# Altium schematic symbol library IC.SchLib: 26 symbols
Pins are listed as number, name and electrical type; pins without a type are passive.

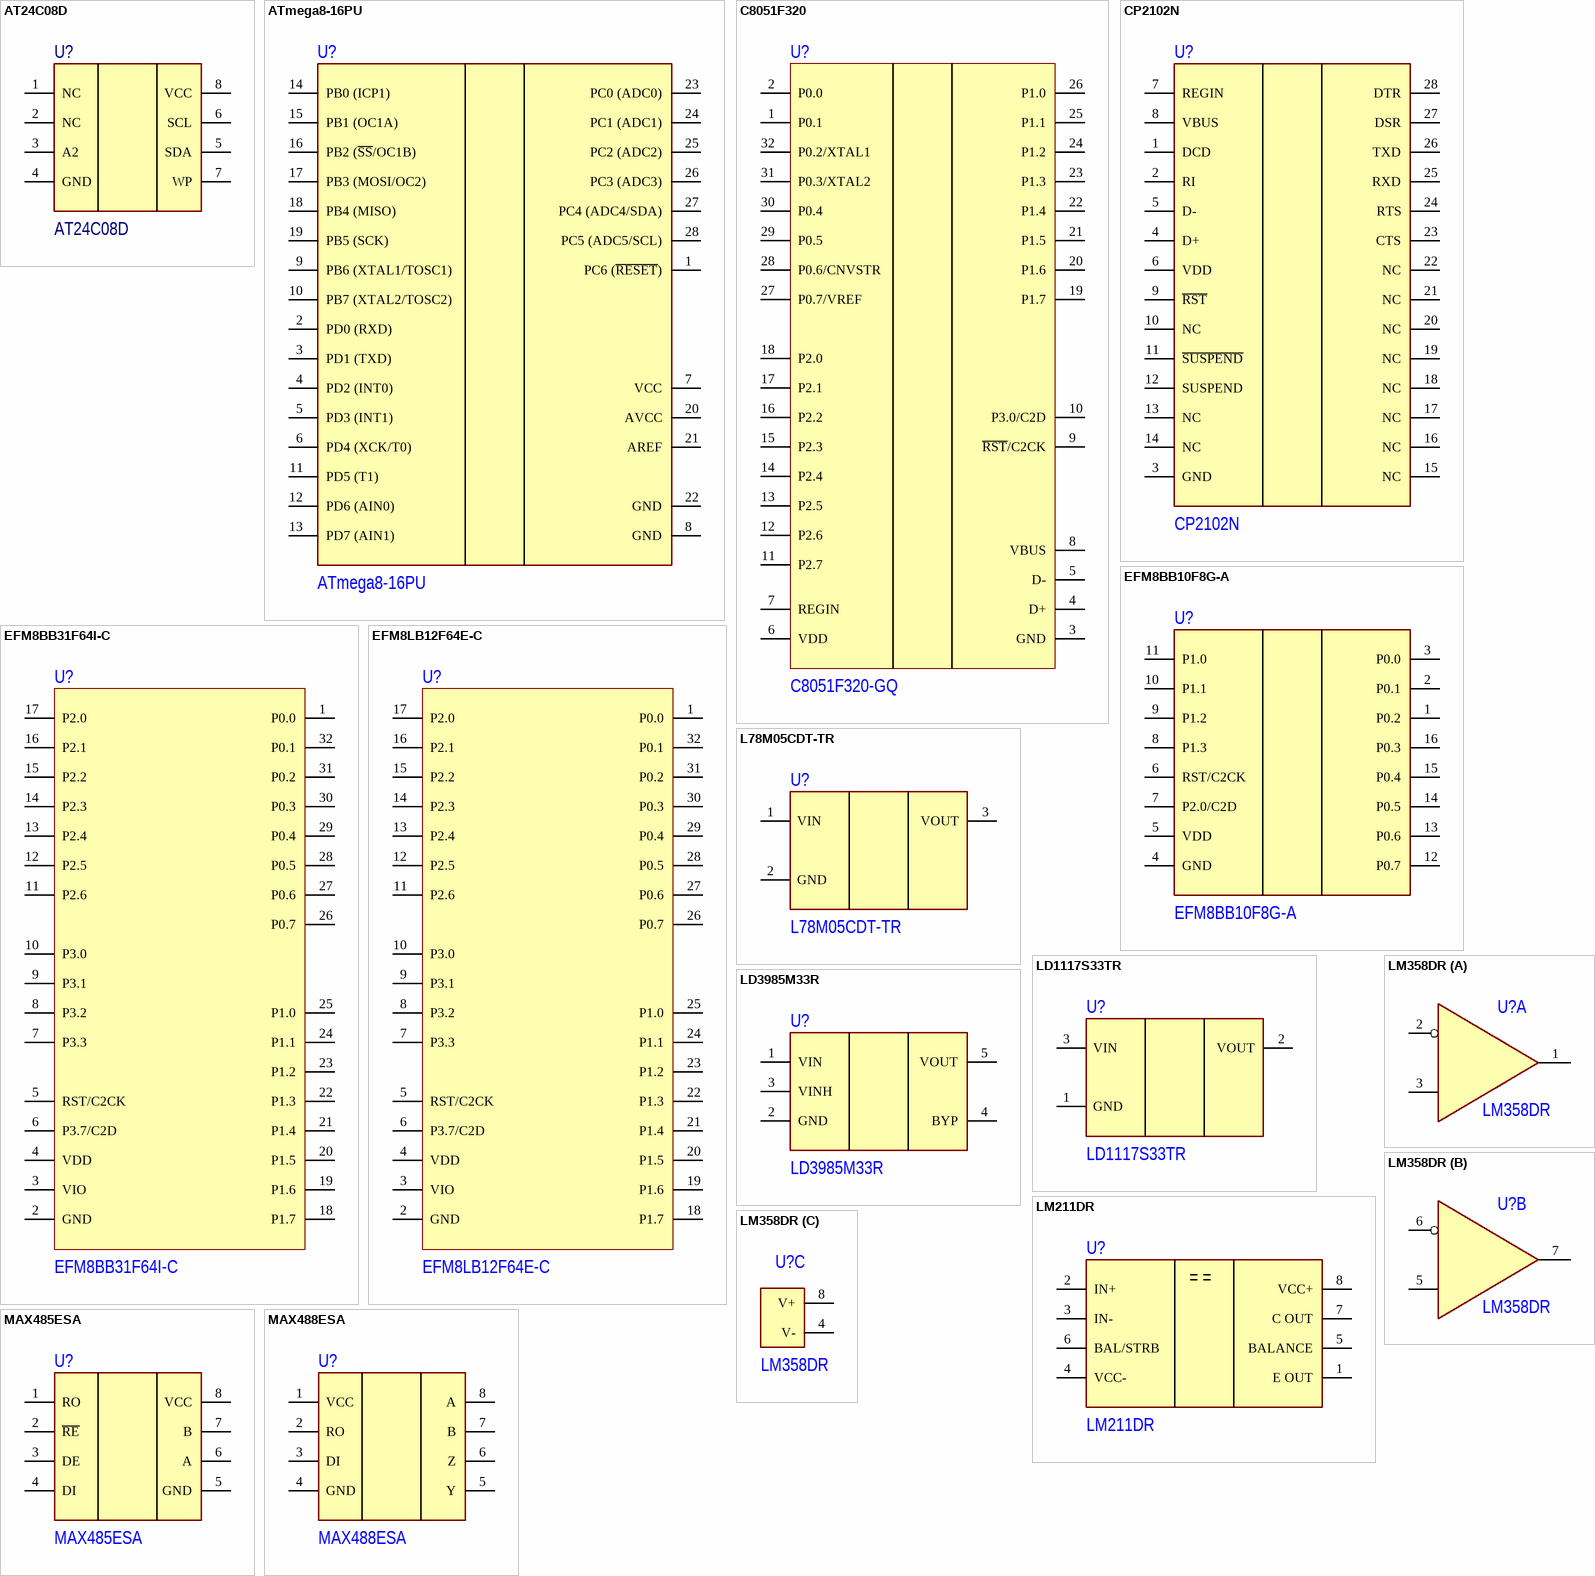
[diagram p0: symbols AT24C08D to MAX488ESA]

## AT24C08D
designator U?
IC EEPROM 8K I2C 1MHZ 8SOIC; Manufacturer: Microchip Technology; Note: SOIC-8; Part Number: AT24C08D
footprint 8-SOIC
pins: 1 NC, 2 NC, 3 A2, 4 GND (power), 5 SDA, 6 SCL, 7 WP, 8 VCC (power)

## ATmega8-16PU
designator U?
IC MCU 8BIT, 4.5-5.5V, 16MHz, 8KB Flash, 512 Bytes EEPROM, 1KB SRAM, 28-pin PDIP, Industrial Grade (-40°C to 85°C); Manufacturer: Atmel; Note: DIP-28; Part Number: ATmega8-16PU
footprint 28-DIP (28-Pin Plastic Dual In-Line Package (PDIP))
pins: 1 PC6 (~{RESET}), 2 PD0 (RXD), 3 PD1 (TXD), 4 PD2 (INT0), 5 PD3 (INT1), 6 PD4 (XCK/T0), 7 VCC (power), 8 GND (power), 9 PB6 (XTAL1/TOSC1), 10 PB7 (XTAL2/TOSC2), 11 PD5 (T1), 12 PD6 (AIN0), 13 PD7 (AIN1), 14 PB0 (ICP1), 15 PB1 (OC1A), 16 PB2 (~{SS}/OC1B), 17 PB3 (MOSI/OC2), 18 PB4 (MISO), 19 PB5 (SCK), 20 AVCC (power), 21 AREF, 22 GND (power), 23 PC0 (ADC0), 24 PC1 (ADC1), 25 PC2 (ADC2), 26 PC3 (ADC3), 27 PC4 (ADC4/SDA), 28 PC5 (ADC5/SCL)

## C8051F320
designator U?, comment C8051F320-GQ
IC MCU 8BIT 16KB FLASH 32LQFP; Manufacturer: Silicon Labs; Note: LQFP-32; Part Number: C8051F320-GQ
footprint 32-LQFP
pins: 1 P0.1 "Port 0.1.", 2 P0.0 "Port 0.0. See Section 14 for a complete description of Port 0.", 3 GND "Ground.", 4 D+ "USB D+.", 5 D- "USB D-", 6 VDD "2.7-3.6 V Power Supply Voltage Input. 3.3 V Voltage Regulator Output. See Section 8.", 7 REGIN "5 V Regulator Input. This pin is the input to the on-chip  voltage regulator.", 8 VBUS "VBUS Sense Input. This pin should be connected to the VBUS signal of a USB network. A 5 V signal on this pin indicates a USB network connection.", 9 ~{RST}/C2CK, 10 P3.0/C2D, 11 P2.7 "Port 2.7.", 12 P2.6 "Port 2.6.", 13 P2.5 "Port 2.5.", 14 P2.4 "Port 2.4.", 15 P2.3 "Port 2.3.", 16 P2.2 "Port 2.2.", 17 P2.1 "Port 2.1.", 18 P2.0 "Port 2.0. See Section 20 for a complete description of Port 2.", 19 P1.7 "Port 1.7.", 20 P1.6 "Port 1.6.", 21 P1.5 "Port 1.5.", 22 P1.4 "Port 1.4.", 23 P1.3 "Port 1.3.", 24 P1.2 "Port 1.2.", 25 P1.1 "Port 1.1.", 26 P1.0 "Port 1.0. See Section 20 for a complete description of Port 1.", 27 P0.7/VREF, 28 P0.6/CNVSTR, 29 P0.5 "Port 0.5.", 30 P0.4 "Port 0.4.", 31 P0.3/XTAL2, 32 P0.2/XTAL1

## CP2102N
designator U?
IC USB TO UART BRIDGE QFN28; Part Number: CP2102N-A02-GQFN28R; Manufacturer: Silicon Labs; Note: QFN-28
footprint 28-QFN (PQFN, 28-Leads, Body 5,00x5,00mm, Pitch 0,50mm, Thermal Pad 3,15x3,15mm, IPC Medium Density)
pins: 1 DCD, 2 RI, 3 GND, 4 D+, 5 D-, 6 VDD, 7 REGIN, 8 VBUS, 9 ~{RST}, 10 NC, 11 ~{SUSPEND}, 12 SUSPEND, 13 NC, 14 NC, 15 NC, 16 NC, 17 NC, 18 NC, 19 NC, 20 NC, 21 NC, 22 NC, 23 CTS, 24 RTS, 25 RXD, 26 TXD, 27 DSR, 28 DTR

## EFM8BB10F8G-A
designator U?
IC MCU 8BIT 8KB FLASH SOIC-16; Manufacturer: Silicon Labs; Part Number: EFM8BB10F8G-A; Note: SOIC-16
footprint 16-SOIC
pins: 1 P0.2, 2 P0.1, 3 P0.0, 4 GND, 5 VDD, 6 RST/C2CK, 7 P2.0/C2D, 8 P1.3, 9 P1.2, 10 P1.1, 11 P1.0, 12 P0.7, 13 P0.6, 14 P0.5, 15 P0.4, 16 P0.3

## EFM8BB31F64I-C
designator U?
IC MCU 8BIT QFP-32; Part Number: EFM8BB31F64I-C-QFP32; Manufacturer: Silicon Labs; Note: QFP-32
footprint 32-LQFP
pins: 1 P0.0, 2 GND, 3 VIO, 4 VDD, 5 RST/C2CK, 6 P3.7/C2D, 7 P3.3, 8 P3.2, 9 P3.1, 10 P3.0, 11 P2.6, 12 P2.5, 13 P2.4, 14 P2.3, 15 P2.2, 16 P2.1, 17 P2.0, 18 P1.7, 19 P1.6, 20 P1.5, 21 P1.4, 22 P1.3, 23 P1.2, 24 P1.1, 25 P1.0, 26 P0.7, 27 P0.6, 28 P0.5, 29 P0.4, 30 P0.3, 31 P0.2, 32 P0.1

## EFM8LB12F64E-C
designator U?
IC MCU 8BIT QFP-32; Part Number: EFM8LB12F64E-C-QFP32R; Manufacturer: Silicon Labs; Note: QFP-32
footprint 32-LQFP
pins: 1 P0.0, 2 GND, 3 VIO, 4 VDD, 5 RST/C2CK, 6 P3.7/C2D, 7 P3.3, 8 P3.2, 9 P3.1, 10 P3.0, 11 P2.6, 12 P2.5, 13 P2.4, 14 P2.3, 15 P2.2, 16 P2.1, 17 P2.0, 18 P1.7, 19 P1.6, 20 P1.5, 21 P1.4, 22 P1.3, 23 P1.2, 24 P1.1, 25 P1.0, 26 P0.7, 27 P0.6, 28 P0.5, 29 P0.4, 30 P0.3, 31 P0.2, 32 P0.1

## L78M05CDT-TR
designator U?
IC REG LINEAR 5V 500MA DPAK; Manufacturer: STMicroelectronics; Part Number: L78M05CDT-TR; Note: DPAK
footprint DPAK
pins: 1 VIN, 2 GND, 3 VOUT

## LD1117S33TR
designator U?
IC REG LINEAR 3.3V 800MA SOT223; Manufacturer: STMicroelectronics; Note: SOT-223; Part Number: LD1117S33TR
footprint SOT223
pins: 1 GND, 2 VOUT, 3 VIN

## LD3985M33R
designator U?
IC REG LINEAR 3.3V 150MA SOT23-5; Manufacturer: STMicroelectronics; Part Number: LD3985M33R; Note: SOT23-5
footprint SOT23-5
pins: 1 VIN, 2 GND, 3 VINH, 4 BYP, 5 VOUT

## LM211DR
designator U?
IC DIFF COMPARATOR W/STRB 8-SOIC; Manufacturer: Texas Instruments; Note: SOIC-8; Part Number: LM211DR
footprint 8-SOIC
pins: 1 E OUT, 2 IN+, 3 IN-, 4 VCC-, 5 BALANCE, 6 BAL/STRB, 7 C OUT, 8 VCC+

## LM358DR
designator U?
IC OPAMP GP 2 CIRCUIT SOIC-8; Manufacturer: Texas Instruments; Part Number: LM358DR; Note: SOIC-8
footprint 8-SOIC
part A pins: 1 OUT A  , 2, 3
part B pins: 5, 6, 7 OUT B  
part C pins: 4 V-, 8 V+

## MAX485ESA
designator U?
IC TRANSCEIVER HALF 1/1 8SOIC; Manufacturer: Maxim Integrated; Note: SOIC-8; Part Number: MAX485ESA
footprint 8-SOIC
pins: 1 RO, 2 ~{RE}, 3 DE, 4 DI, 5 GND (power), 6 A, 7 B, 8 VCC

## MAX488ESA
designator U?
IC TRANSCEIVER FULL 1/1 8SOIC; Manufacturer: Maxim Integrated; Note: SOIC-8; Part Number: MAX488ESA
footprint 8-SOIC
pins: 1 VCC, 2 RO, 3 DI, 4 GND (power), 5 Y, 6 Z, 7 B, 8 A

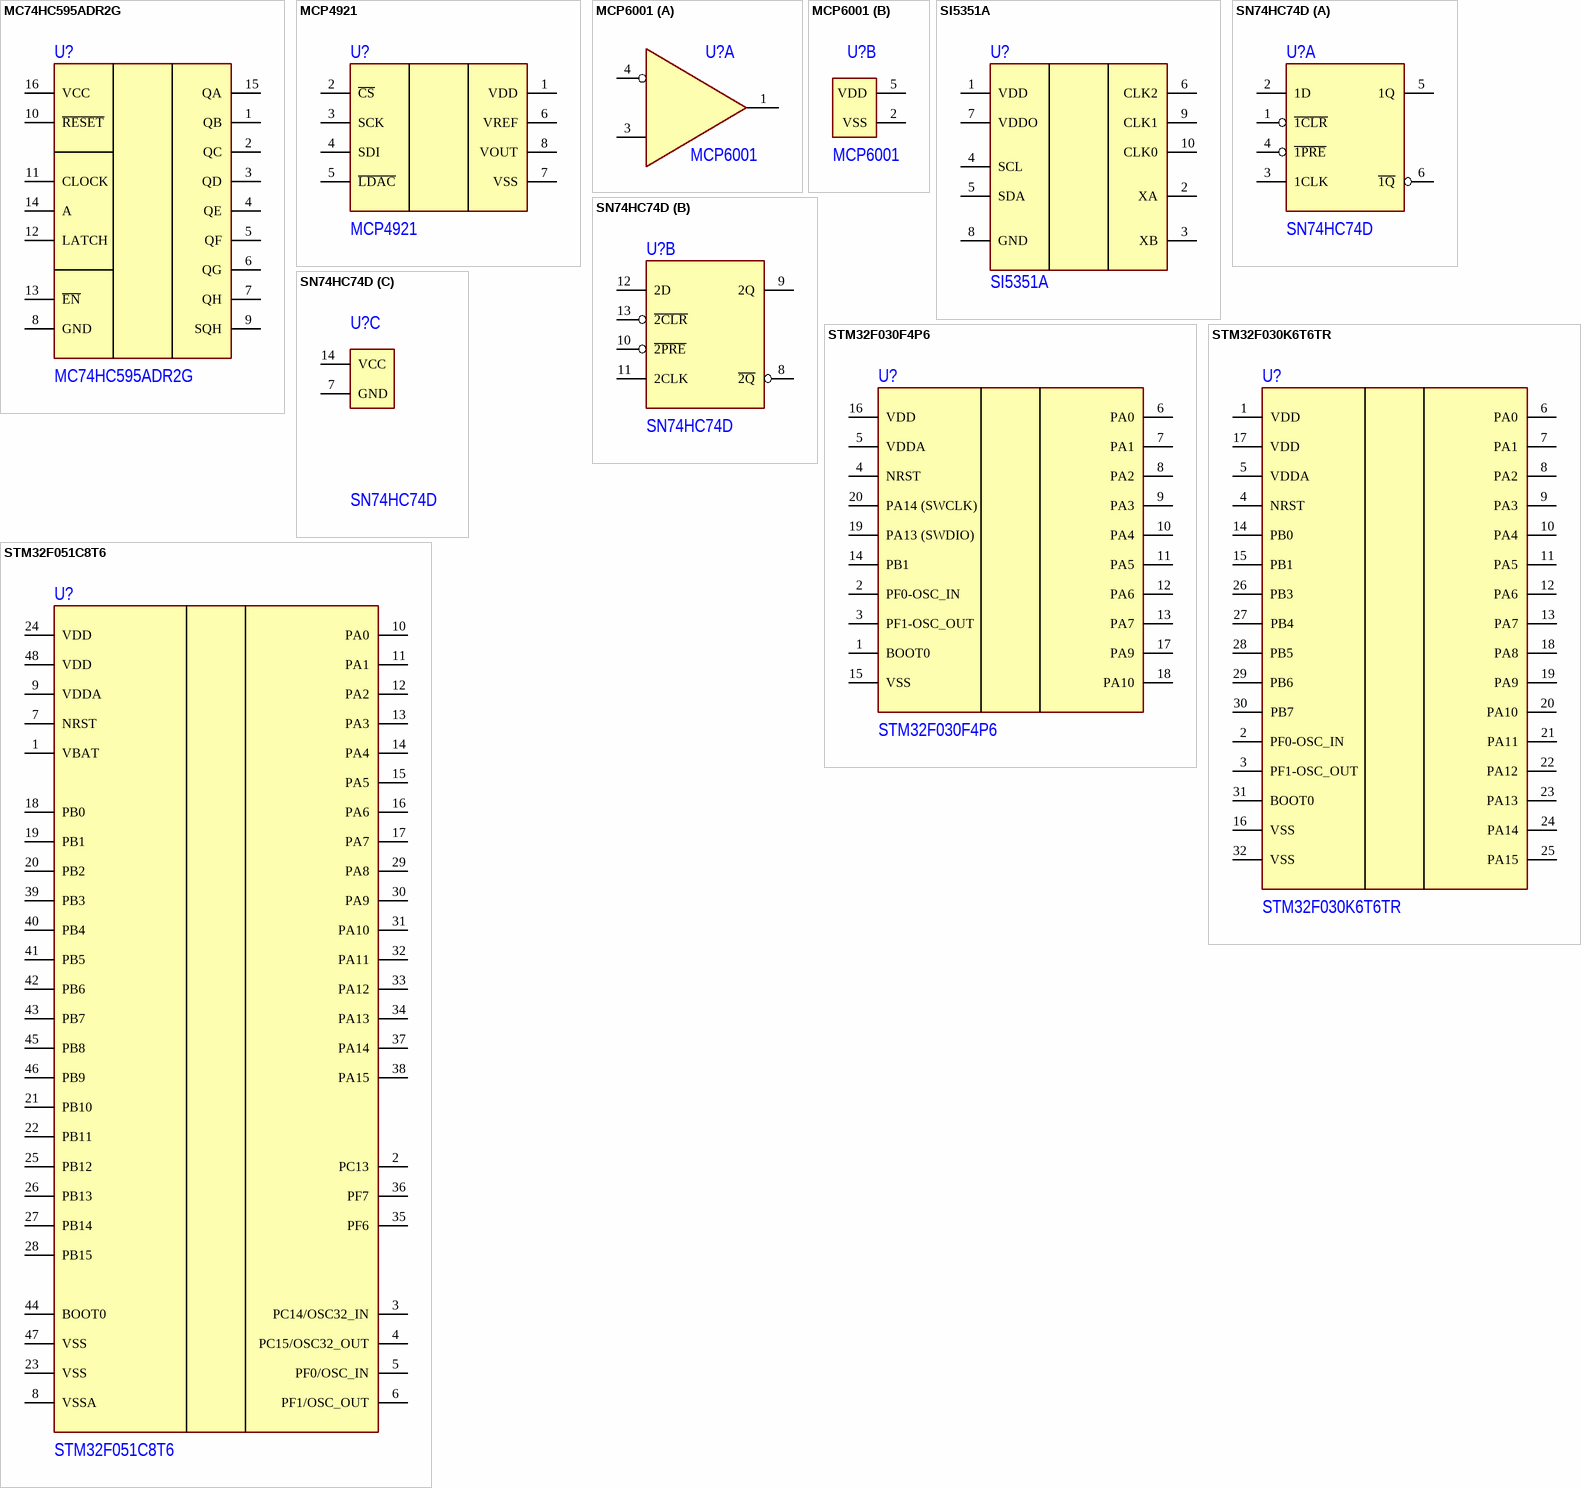
[diagram p1: symbols MC74HC595ADR2G to STM32F051C8T6]

## MC74HC595ADR2G
designator U?
IC SHIFT REGISTR 8BIT 3ST SOIC-16; Manufacturer: ON Semiconductor; Part Number: MC74HC595ADR2G; Note: SOIC-16
footprint 16-SOIC
pins: 1 QB, 2 QC, 3 QD, 4 QE, 5 QF, 6 QG, 7 QH, 8 GND, 9 SQH, 10 ~{RESET}, 11 CLOCK, 12 LATCH, 13 ~{EN}, 14 A, 15 QA, 16 VCC

## MCP4921
designator U?
12 BIT DAC  SPI; Manufacturer: Microchip; Note: SOIC-8; Part Number: MCP4921
footprint 8-SOIC
pins: 1 VDD, 2 ~{CS}, 3 SCK, 4 SDI, 5 ~{LDAC}, 6 VREF, 7 VSS, 8 VOUT

## MCP6001
designator U?
IC OPAMP GP 1 CIRCUIT SOT23-5; Part Number: MCP6001UT-I/OT; Manufacturer: Microchip Technology; Note: SOT-23-5
footprint SOT23-5
part A pins: 1 OUT, 3, 4
part B pins: 2 VSS, 5 VDD

## SI5351A
designator U?
IC CLK GENERATOR 200MHZ MSOP-10; Part Number: SI5351A-B-GTR; Manufacturer: Silicon Labs; Note: MSOP-10
footprint MSOP-10
pins: 1 VDD , 2 XA, 3 XB, 4 SCL, 5 SDA, 6 CLK2, 7 VDDO, 8 GND, 9 CLK1, 10 CLK0

## SN74HC74D
designator U?
IC FF D-TYPE DUAL 1BIT SOIC-14; Manufacturer: Texas  Instruments; Part Number: SN74HC74D; Note: SOIC-14
footprint 14-SOIC
part A pins: 1 ~{1CLR}, 2 1D, 3 1CLK, 4 ~{1PRE}, 5 1Q, 6 ~{1Q}
part B pins: 8 ~{2Q}, 9 2Q, 10 ~{2PRE}, 11 2CLK, 12 2D, 13 ~{2CLR}
part C pins: 7 GND, 14 VCC

## STM32F030F4P6
designator U?
IC MCU 32BIT 16KB FLASH TSSOP-20; Manufacturer: STMicroelectronics; Note: TSSOP-20; Part Number: STM32F030F4P6
footprint 20-TSSOP
pins: 1 BOOT0, 2 PF0-OSC_IN, 3 PF1-OSC_OUT, 4 NRST, 5 VDDA, 6 PA0, 7 PA1, 8 PA2, 9 PA3, 10 PA4, 11 PA5, 12 PA6, 13 PA7, 14 PB1, 15 VSS, 16 VDD, 17 PA9, 18 PA10, 19 PA13 (SWDIO), 20 PA14 (SWCLK)

## STM32F030K6T6TR
designator U?
IC MCU 32BIT 32KB FLASH LQFP-32; Manufacturer: STMicroelectronics; Part Number: STM32F030K6T6TR; Note: LQFP-32
footprint 32-LQFP
pins: 1 VDD, 2 PF0-OSC_IN, 3 PF1-OSC_OUT, 4 NRST, 5 VDDA, 6 PA0, 7 PA1, 8 PA2, 9 PA3, 10 PA4, 11 PA5, 12 PA6, 13 PA7, 14 PB0, 15 PB1, 16 VSS, 17 VDD, 18 PA8, 19 PA9, 20 PA10, 21 PA11, 22 PA12, 23 PA13, 24 PA14, 25 PA15, 26 PB3, 27 PB4, 28 PB5, 29 PB6, 30 PB7, 31 BOOT0, 32 VSS

## STM32F051C8T6
designator U?
IC MCU 32BIT 64KB FLASH LQFP-48; Manufacturer: STMicroelectronics; Part Number: STM32F051C8T6; Note: LQFP-48
footprint 48-LQFP
pins: 1 VBAT, 2 PC13, 3 PC14/OSC32_IN, 4 PC15/OSC32_OUT, 5 PF0/OSC_IN, 6 PF1/OSC_OUT, 7 NRST, 8 VSSA (power), 9 VDDA (power), 10 PA0, 11 PA1, 12 PA2, 13 PA3, 14 PA4, 15 PA5, 16 PA6, 17 PA7, 18 PB0, 19 PB1, 20 PB2, 21 PB10, 22 PB11, 23 VSS (power), 24 VDD (power), 25 PB12, 26 PB13, 27 PB14, 28 PB15, 29 PA8, 30 PA9, 31 PA10, 32 PA11, 33 PA12, 34 PA13, 35 PF6, 36 PF7, 37 PA14, 38 PA15, 39 PB3, 40 PB4, 41 PB5, 42 PB6, 43 PB7, 44 BOOT0, 45 PB8, 46 PB9, 47 VSS (power), 48 VDD (power)

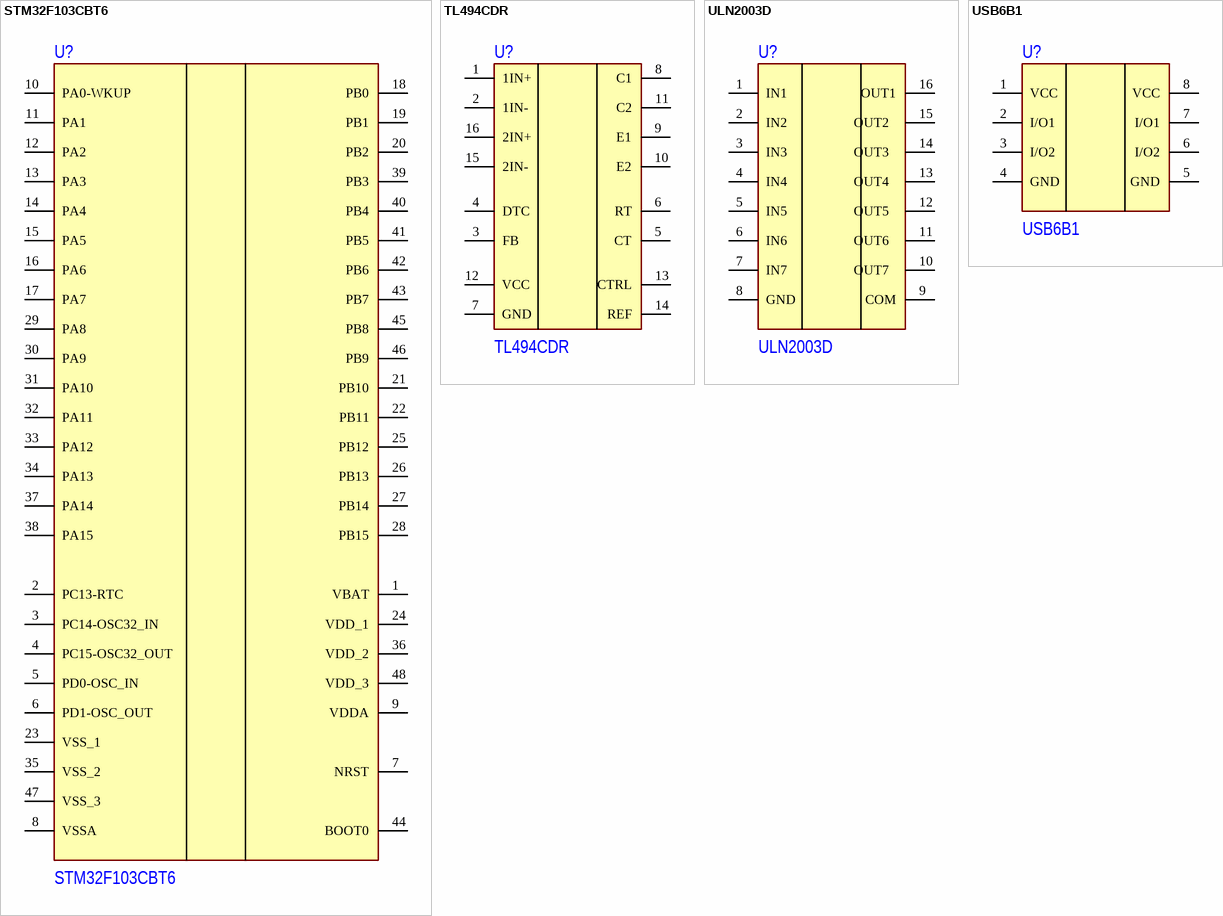
[diagram p2: symbols STM32F103CBT6 to USB6B1]

## STM32F103CBT6
designator U?
IC MCU 32BIT 128KB FLASH 48LQFP; Manufacturer: STMicroelectronics; Note: LQFP-48; Value: *; Part Number: STM32F103CBT6
footprint 48-LQFP
pins: 1 VBAT (power), 2 PC13-RTC "PC13-TAMPER-RTC/PC13/TAMPER-RTC", 3 PC14-OSC32_IN "PC14-OSC32_IN/PC14/OSC32_IN", 4 PC15-OSC32_OUT "PC15-OSC32_OUT/PC15/OSC32_OUT", 5 PD0-OSC_IN "PD0/OSC_IN", 6 PD1-OSC_OUT "PD1/OSC_OUT", 7 NRST, 8 VSSA, 9 VDDA (power), 10 PA0-WKUP "PA0-WKUP/PA0/WKUP/USART2_CTS/ADC12_IN0/TIM2_CH1_ETR", 11 PA1 "PA1/USART2_RTS/ADC12_IN1/TIM2_CH2", 12 PA2 "PA2/USART2_TX/ADC12_IN2/TIM2_CH3", 13 PA3 "PA3/USART2_RX/ADC12_IN3/TIM2_CH4", 14 PA4 "PA4/SPI1_NSS/USART2_CK/ADC12_IN4", 15 PA5 "PA5/SPI1_SCK/ADC12_IN5", 16 PA6 "PA6/SPI1_MISO/ADC12_IN6/TIM3_CH1/TIM1_BKIN", 17 PA7 "PA7/SPI1_MOSI/ADC12_IN7/TIM3_CH2/TIM1_CH1N", 18 PB0 "PB0/ADC12_IN8/TIM3_CH3/TIM1_CH2N", 19 PB1 "PB1/ADC12_IN9/TIM3_CH4/TIM1_CH3N", 20 PB2 "PB2/BOOT1", 21 PB10 "PB10/I2C2_SCL/USART3_TX/TIM2_CH3", 22 PB11 "PB11/I2C2_SDA/USART3_RX/TIM2_CH4", 23 VSS_1, 24 VDD_1 (power), 25 PB12 "PB12/SPI2_NSS/I2C2_SMBAl/USART3_CK/TIM1_BKIN", 26 PB13 "PB13/SPI2_SCK/USART3_CTS/TIM1_CH1N", 27 PB14 "PB14/SPI2_MISO/USART3_RTS/TIM1_CH2N", 28 PB15 "PB15/SPI2_MOSI/TIM1_CH3N", 29 PA8 "PA8/USART1_CK/TIM1_CH1/MCO", 30 PA9 "PA9/USART1_TX/TIM1_CH2", 31 PA10 "PA10/USART1_RX/TIM1_CH3", 32 PA11 "PA11/USART1_CTS/CANRX/USBDM/TIM1_CH4", 33 PA12 "PA12/USART1_RTS/CANTX/USBDP/TIM1_ETR", 34 PA13 "PA13/JTMS/SWDIO", 35 VSS_2, 36 VDD_2 (power), 37 PA14 "PA14/JTCK/SWCLK", 38 PA15 "PA15/JTDI/TIM2_CH1_ETR/SPI1_NSS", 39 PB3 "PB3/JTDO/TIM2_CH2/TRACESWO/SPI1_SCK", 40 PB4 "PB4/NJTRST/TIM3_CH1/SPI1_MISO", 41 PB5 "PB5/I2C1_SMBAI/TIM3_CH2/SPI1_MOSI", 42 PB6 "PB6/I2C1_SCL/TIM4_CH1/USART1_TX", 43 PB7 "PB7/I2C1_SDA/TIM4_CH2/USART1_RX", 44 BOOT0, 45 PB8 "PB8/TIM4_CH3/I2C1_SCL/CANRX", 46 PB9 "PB9/TIM4_CH4/I2C1_SDA/CANTX", 47 VSS_3, 48 VDD_3 (power)

## TL494CDR
designator U?
IC REG CTRLR MULT TOP SOIC-16; Manufacturer: Texas Instruments; Part Number: TL494CDR; Note: SOIC-16
footprint 16-SOIC
pins: 1 1IN+, 2 1IN-, 3 FB, 4 DTC, 5 CT, 6 RT, 7 GND, 8 C1, 9 E1, 10 E2, 11 C2, 12 VCC, 13 CTRL, 14 REF, 15 2IN-, 16 2IN+

## ULN2003D
designator U?
IC PWR RELAY 7NPN 1:1 16SO; Part Number: ULN2003D1013TR; Manufacturer: STMicroelectronics; Note: SOIC-16
footprint 16-SOIC
pins: 1 IN1, 2 IN2, 3 IN3, 4 IN4, 5 IN5, 6 IN6, 7 IN7, 8 GND, 9 COM, 10 OUT7  , 11 OUT6  , 12 OUT5  , 13 OUT4  , 14 OUT3  , 15 OUT2  , 16 OUT1

## USB6B1
designator U?
TVS DIODE 5.25V 8SO; Manufacturer: STMicroelectronics; Note: SOIC-8; Part Number: USB6B1
footprint 8-SOIC
pins: 1 VCC, 2 I/O1, 3 I/O2, 4 GND, 5 GND, 6 I/O2, 7 I/O1, 8 VCC